# EAGLE library part MA17-2 (library con-lstb)
PIN HEADER
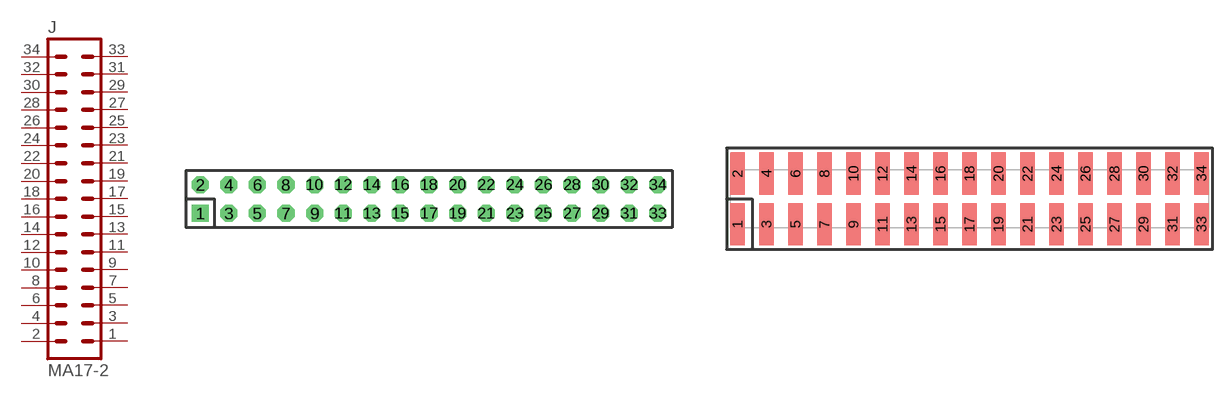
[diagram p5: symbol with the pads of MA17-2; footprints MA17-2, SMD-MA17-2]

Designator prefix J

## MA17-2  [MA17-2]
1  1  pas
2  2  pas
3  3  pas
4  4  pas
5  5  pas
6  6  pas
7  7  pas
8  8  pas
9  9  pas
10  10  pas
11  11  pas
12  12  pas
13  13  pas
14  14  pas
15  15  pas
16  16  pas
17  17  pas
18  18  pas
19  19  pas
20  20  pas
21  21  pas
22  22  pas
23  23  pas
24  24  pas
25  25  pas
26  26  pas
27  27  pas
28  28  pas
29  29  pas
30  30  pas
31  31  pas
32  32  pas
33  33  pas
34  34  pas

## MA17-2SMD  [SMD-MA17-2]
Pads as for MA17-2

## Footprint MA17-2 (pad centres in mm)
PIN HEADER
drill 1.016 square: 1 -20.32,-1.27
drill 1.016 octagon: 2 -20.32,1.27; 3 -17.78,-1.27; 4 -17.78,1.27; 5 -15.24,-1.27; 6 -15.24,1.27; 7 -12.7,-1.27; 8 -12.7,1.27; 9 -10.16,-1.27; 10 -10.16,1.27; 11 -7.62,-1.27; 12 -7.62,1.27; 13 -5.08,-1.27; 14 -5.08,1.27; 15 -2.54,-1.27; 16 -2.54,1.27; 17 0,-1.27; 18 0,1.27; 19 2.54,-1.27; 20 2.54,1.27; 21 5.08,-1.27; 22 5.08,1.27; 23 7.62,-1.27; 24 7.62,1.27; 25 10.16,-1.27; 26 10.16,1.27; 27 12.7,-1.27; 28 12.7,1.27; 29 15.24,-1.27; 30 15.24,1.27; 31 17.78,-1.27; 32 17.78,1.27; 33 20.32,-1.27; 34 20.32,1.27

## Footprint SMD-MA17-2 (pad centres in mm)
SMD Dual Row, Vertical - 0.1" Sullins, G XCXXDABN-M30 Series
smd 1.27 x 3.68: 1 -20.32,-2.223; 2 -20.32,2.223; 3 -17.78,-2.223; 4 -17.78,2.223; 5 -15.24,-2.223; 6 -15.24,2.223; 7 -12.7,-2.223; 8 -12.7,2.223; 9 -10.16,-2.223; 10 -10.16,2.223; 11 -7.62,-2.223; 12 -7.62,2.223; 13 -5.08,-2.223; 14 -5.08,2.223; 15 -2.54,-2.223; 16 -2.54,2.223; 17 0,-2.223; 18 0,2.223; 19 2.54,-2.223; 20 2.54,2.223; 21 5.08,-2.223; 22 5.08,2.223; 23 7.62,-2.223; 24 7.62,2.223; 25 10.16,-2.223; 26 10.16,2.223; 27 12.7,-2.223; 28 12.7,2.223; 29 15.24,-2.223; 30 15.24,2.223; 31 17.78,-2.223; 32 17.78,2.223; 33 20.32,-2.223; 34 20.32,2.223